# EAGLE library part TEENSY_LC (library timearc)
Teensy LC
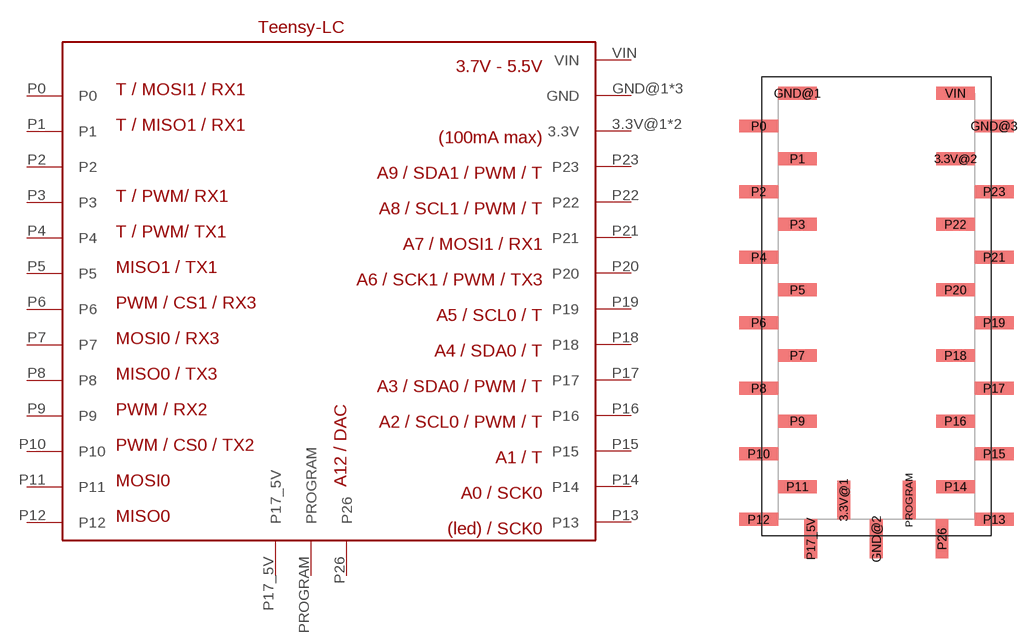
[diagram p6: symbol with the pads of TEENSY_LC_SMD; footprint TEENSY_LC_SMD]

Designator prefix -

## TEENSY_LCSMD  [TEENSY_LC_SMD]
3.3V@1  3.3V
3.3V@2  3.3V
GND@1  GND
GND@2  GND
GND@3  GND
P0  P0
P1  P1
P2  P2
P3  P3
P4  P4
P5  P5
P6  P6
P7  P7
P8  P8
P9  P9
P10  P10
P11  P11
P12  P12
P13  P13
P14  P14
P15  P15
P16  P16
P17  P17
P17_5V  P17_5V
P18  P18
P19  P19
P20  P20
P21  P21
P22  P22
P23  P23
P26  P26
PROGRAM  PROGRAM
VIN  VIN

## Footprint TEENSY_LC_SMD (pad centres in mm)
smd 1 x 3: 3.3V@1 -2.54,-15.011; GND@2 0,-18.011; P17_5V -5.08,-18.011; P26 5.08,-18.011; PROGRAM 2.54,-15.011
smd 3 x 1: 3.3V@2 6.121,11.43; GND@1 -6.121,16.51; GND@3 9.121,13.97; P0 -9.121,13.97; P1 -6.121,11.43; P2 -9.121,8.89; P3 -6.121,6.35; P4 -9.121,3.81; P5 -6.121,1.27; P6 -9.121,-1.27; P7 -6.121,-3.81; P8 -9.121,-6.35; P9 -6.121,-8.89; P10 -9.121,-11.43; P11 -6.121,-13.97; P12 -9.121,-16.51; P13 9.121,-16.51; P14 6.121,-13.97; P15 9.121,-11.43; P16 6.121,-8.89; P17 9.121,-6.35; P18 6.121,-3.81; P19 9.121,-1.27; P20 6.121,1.27; P21 9.121,3.81; P22 6.121,6.35; P23 9.121,8.89; VIN 6.121,16.51